# Altium schematic symbol library Orient.SchLib: 66 symbols (part 3 of 3)
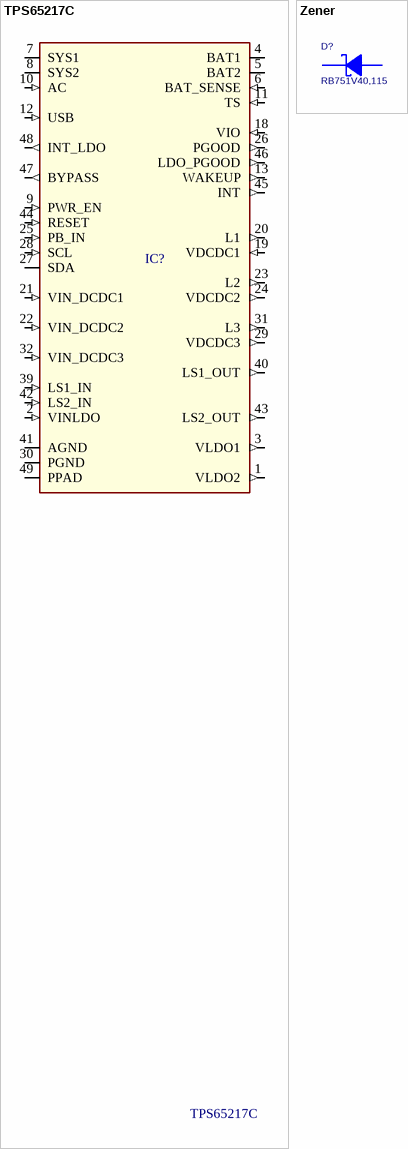
[diagram p6: symbols TPS65217C to Zener]

## TPS65217C
designator IC?
IC PMIC BATT PWR SYST 48VQFN; Manufacturer: Texas Instruments; Manufacturer Part Number: TPS65217CRSLR; Voltage - Supply: 2.75 V ~ 5.8 V; Supplier 1: Digi-Key; Supplier Part Number 1: 296-34814-6-ND; RoHS: RoHS Compliant; Category: Integrated Circuits (ICs); Stock 1: 0; Pricing 1: 1=8.01, 10=7.204, 25=6.5516, 100=4.1918, 250=4.11412, 500=4.0365, 750=3.95888 (USD); Applications: Battery Management, Display (LED Drivers), Handheld/Mobile Devices, Power Supply; Current - Supply: -; Operating Temperature: -40°C ~ 105°C; Mounting Type: Surface Mount; Package / Case: 48-VFQFN Exposed Pad; Supplier Device Package: 48-VQFN-EP (6x6); Packaging: Digi-Reel®; ComponentLink1URL: http://www.ti.com/lit/ds/slvsb64i/slvsb64i.pdf; ComponentLink1Description: Datasheet
footprint PVQFN-48 (QFN, 48-Leads, Body 6.00x6.00mm, Pitch 0.40mm, Thermal Pad 2.80x2.80mm, IPC Medium Density)
pins: 1 VLDO2 (out), 2 VINLDO (in), 3 VLDO1 (out), 4 BAT1 (io), 5 BAT2 (io), 6 BAT_SENSE (in), 7 SYS1, 8 SYS2, 9 PWR_EN (in), 10 AC (in), 11 TS (in), 12 USB (in), 13 WAKEUP (out), 18 VIO (in), 19 VDCDC1 (in), 20 L1 (out), 21 VIN_DCDC1 (in), 22 VIN_DCDC2 (in), 23 L2 (out), 24 VDCDC2 (out), 25 PB_IN (in), 26 PGOOD (out), 27 SDA (io), 28 SCL (in), 29 VDCDC3 (out), 30 PGND (power), 31 L3 (out), 32 VIN_DCDC3 (in), 39 LS1_IN (in), 40 LS1_OUT (out), 41 AGND (power), 42 LS2_IN (in), 43 LS2_OUT (out), 44 RESET (in), 45 INT (out), 46 LDO_PGOOD (out), 47 BYPASS (out), 48 INT_LDO (out), 49 PPAD (power)

## Zener
designator D?, comment RB751V40,115
DIODE SCHOTTKY 40V 120MA SOD323; Manufacturer: NXP Semiconductors; Current - Average Rectified (Io): 120mA (DC); Voltage - Forward (Vf) (Max) @ If: 370mV @ 1mA; Speed: Small Signal =< 200mA (Io), Any Speed; Current - Reverse Leakage @ Vr: 500nA @ 30V; Capacitance @ Vr, F: 2pF @ 1V, 1MHz; Supplier 1: Digi-Key; Supplier Part Number 1: 568-8119-6-ND; Manufacturer Part Number: RB751V40,115; RoHS: RoHS Compliant; Category: Discrete Semiconductor Products; Stock 1: 5326; Pricing 1: 1=0.29, 10=0.26, 25=0.1872, 100=0.1456, 250=0.09152, 500=0.07798, 1000=0.05313 (USD); Diode Type: Schottky; Voltage - DC Reverse (Vr) (Max): 40V; Reverse Recovery Time (trr): -; Mounting Type: Surface Mount; Package / Case: SC-76, SOD-323; Supplier Device Package: SOD-323; Packaging: Digi-Reel®; ComponentLink1URL: http://www.nxp.com/documents/data_sheet/RB751_SER.pdf; ComponentLink1Description: http://www.nxp.com/documents/data_sheet/RB751_SER.pdf
footprint SOD323
pins: 1 C, 2 A